# Altium integrated library Unified drivers.IntLib: 3 symbols
Pins are listed as number, name and electrical type; pins without a type are passive.

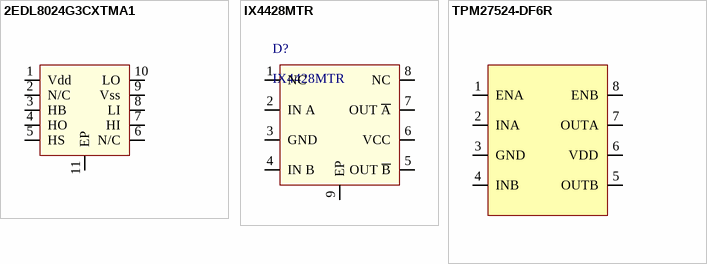
[diagram p0: symbols 2EDL8024G3CXTMA1 to TPM27524-DF6R]

## 2EDL8024G3CXTMA1
designator D?
Драйвер мосфет транзисторов
pins: 1 Vdd, 2 N/C, 3 HB, 4 HO, 5 HS, 6 N/C, 7 HI, 8 LI, 9 Vss, 10 LO, 11 EP

## IX4428MTR
designator D?
low-side MOSFET driver; Operating Voltage Range: 4.5V to 35V; Peak Output Current: 1.5A; Supply Voltage: -0.3 to 35 V; Operating Temperature Range: -40 to +125 °C
footprint DFN_8
pins: 1 NC, 2 IN A, 3 GND, 4 IN B, 5 OUT ~{B}, 6 VCC, 7 OUT ~{A}, 8 NC, 9 EP

## TPM27524-DF6R
designator D?
Dual-channel low-side / gate drivers for MOSFET, IGBT, and GaN power switches; Case: DFN8-(3x3)
footprint DFN3X3-8
pins: 1 ENA, 2 INA, 3 GND, 4 INB, 5 OUTB, 6 VDD, 7 OUTA, 8 ENB